# EAGLE library part CON_10 (library 0SBLib)
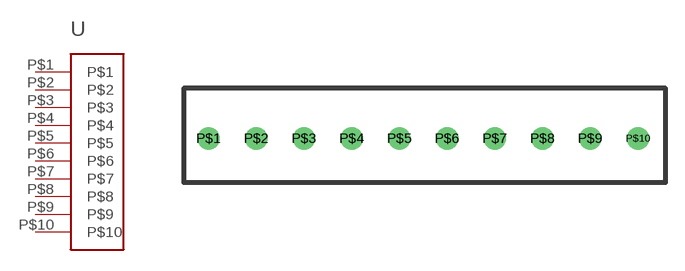
[diagram p15: symbol with the pads of CON_10_3.81; footprint CON_10_3.81]

Designator prefix -

## CON_10  [CON_10_3.81]
P$1  P$1
P$2  P$2
P$3  P$3
P$4  P$4
P$5  P$5
P$6  P$6
P$7  P$7
P$8  P$8
P$9  P$9
P$10  P$10

## Footprint CON_10_3.81 (pad centres in mm)
drill 1.1 pad 1.778: P$1 0,0; P$2 3.81,0; P$3 7.62,0; P$4 11.43,0; P$5 15.24,0; P$6 19.05,0; P$7 22.86,0; P$8 26.67,0; P$9 30.48,0; P$10 34.29,0